# Altium footprint library MBR20100 schottky diode TH.PcbLib: 1 footprints
Each footprint in its own frame and in the unit in brackets; x right, y up, seen from the top. Pads: shape width x height; smd on the part's side, far side on the other; paste and mask are expansions set on the pad; w line width, h text height; cw(c..) or ccw(c..) is an arc to the next point about the centre after c.
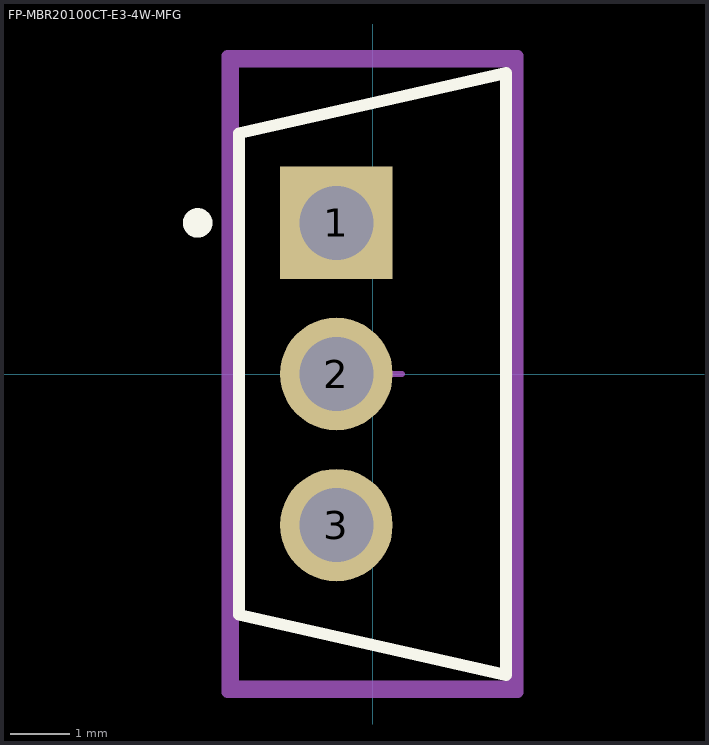
[diagram p0: the footprint, top view; thin cyan lines are the x and y axes]

## FP-MBR20100CT-E3-4W-MFG [mm]
pads (3):
  rect 1.9x1.9 hole 1.25 paste-2539.97 mask+0: 1(-0.61,2.55)
  round 1.9 hole 1.25 paste-2539.97 mask+0: 2(-0.61,0) 3(-0.61,-2.55)
Top Overlay:
  circle w0.25: c-2.95,2.55 r0.125
  lines w0.2: 2.254,-5.08 -2.254,-4.064 -2.254,4.064 2.254,5.08 ; 2.254,-5.03 2.254,5.03
Top Assembly:
  lines w0.2: -2.45,-5.37 -2.45,5.37 2.45,5.37 2.45,-5.37 -2.45,-5.37
  text ".Designator" at 0,-0.001 h1
Top 3D Body:
  lines w0.2: -2.35,-5.27 -2.35,5.27 2.35,5.27 2.35,-5.27 -2.35,-5.27
Top Courtyard:
  lines w0.2: -2.45,-5.37 -2.45,5.37 2.45,5.37 2.45,-5.37 -2.45,-5.37
Top Component Center:
  lines w0.1: -0.5,0 0.5,0 ; 0,-0.5 0,0.5
3D body "Diode_Vishay_MBR20100CT-E3-4W_eec.STEP": height 0.25, standoff 0, extent -2.45,-5.37 2.45,5.37